# Altium schematic symbol library GCM188R71C394JA55D.SchLib: 1 symbol
Pins are listed as number, name and electrical type; pins without a type are passive.

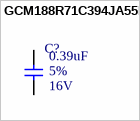
[diagram p0: symbol GCM188R71C394JA55D]

## GCM188R71C394JA55D
designator C?  Rated Voltage: 16V  Tolerance: 5%  Capacitence: 0.39uF  (hidden comment: GCM188R71C394JA55D)
Multilayer Ceramic Capacitors MLCC - SMD/SMT 0603 0.39uF 16volts X7R 5%; MFR: Murata Electronics; PN: GCM188R71C394JA55D; ComponentLink1Description: Datasheet; ComponentLink1URL: www.google.com; Temperature Coefficient: X7R; Package: 0603; Footprint: C0603; Supplier 1: Mouser; Supplier Part Number 1: 81-GCM188R71C394JA5D
footprint C0603 (Generic C0603 Footprint)
pins: 1, 2